# Altium footprint library IC_Maxim_Electronics_MAX395CAG+T_eec_IPC_A.PcbLib: 1 footprints
Each footprint in its own frame and in the unit in brackets; x right, y up, seen from the top. Pads: shape width x height; smd on the part's side, far side on the other; paste and mask are expansions set on the pad; w line width, h text height; cw(c..) or ccw(c..) is an arc to the next point about the centre after c.
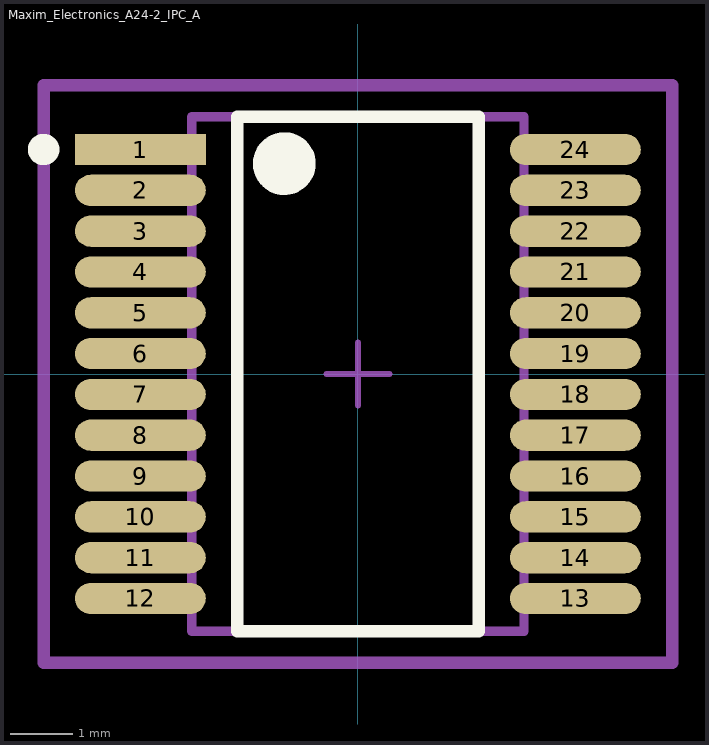
[diagram p0: the footprint, top view; thin cyan lines are the x and y axes]

## Maxim_Electronics_A24-2_IPC_A [mm]
pads (24):
  rect 2.082x0.498 smd paste+0 mask+0: 1(-3.464,3.575)
  oval 2.082x0.498 smd paste+0 mask+0: 2(-3.464,2.925) 3(-3.464,2.275) 4(-3.464,1.625) 5(-3.464,0.975) 6(-3.464,0.325) 7(-3.464,-0.325) 8(-3.464,-0.975) 9(-3.464,-1.625) 10(-3.464,-2.275) 11(-3.464,-2.925) 12(-3.464,-3.575) 13(3.464,-3.575) 14(3.464,-2.925) 15(3.464,-2.275) 16(3.464,-1.625) 17(3.464,-0.975) 18(3.464,-0.325) 19(3.464,0.325) 20(3.464,0.975) 21(3.464,1.625) 22(3.464,2.275) 23(3.464,2.925) 24(3.464,3.575)
Top Overlay:
  circle w0.5: c-1.173,3.35 r0.25
  circle w0.25: c-5.005,3.575 r0.125
  lines w0.2: -1.923,-4.1 1.923,-4.1 1.923,4.1 -1.923,4.1 -1.923,-4.1
Mechanical 10:
  lines w0.2: -5.005,-4.6 5.005,-4.6 5.005,4.6 -5.005,4.6 -5.005,-4.6
  text ".Designator" at 0,0 h1
Mechanical 12:
  lines w0.15: -2.645,-4.1 2.645,-4.1 2.645,4.1 -2.645,4.1 -2.645,-4.1
Mechanical 15:
  lines w0.1: -0.5,0 0.5,0 ; 0,-0.5 0,0.5
  lines w0.2: -5.005,-4.6 5.005,-4.6 5.005,4.6 -5.005,4.6 -5.005,-4.6
3D body "IC_Maxim_Electronics_MAX395CAG+T_eec.STEP": height 0.25, standoff 0, extent -5.005,-4.6 5.005,4.6